# EAGLE library part 9435A (library X893)
http://www.allchip.ru/datasheet/fairchild/fds9435a.pdf
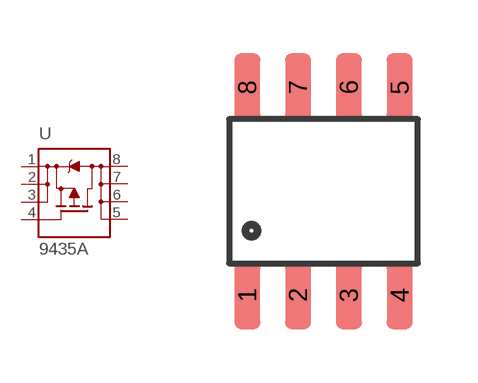
[diagram p94: symbol with the pads of SO08; footprint SO08]

Designator prefix -

## 9435A  [SO08]
1  1  pas
2  2  pas
3  3  pas
4  4  pas
5  5  pas
6  6  pas
7  7  pas
8  8  pas

## Footprint SO08 (pad centres in mm)
Small Outline Package Fits JEDEC packages (narrow SOIC-8)
smd 0.65 x 1.7: 1 -1.905,-2.6; 2 -0.635,-2.6; 3 0.635,-2.6; 4 1.905,-2.6; 5 1.905,2.6; 6 0.635,2.6; 7 -0.635,2.6; 8 -1.905,2.6